# Altium footprint library U_6_DRY.PcbLib: 1 footprints
Each footprint in its own frame and in the unit in brackets; x right, y up, seen from the top. Pads: shape width x height; smd on the part's side, far side on the other; paste and mask are expansions set on the pad; w line width, h text height; cw(c..) or ccw(c..) is an arc to the next point about the centre after c.
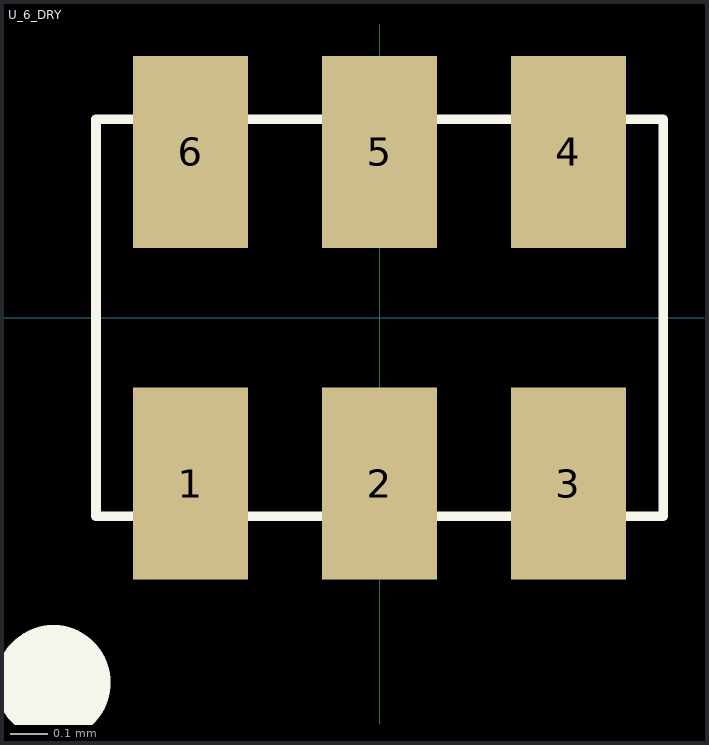
[diagram p0: the footprint, top view; thin cyan lines are the x and y axes]

## U_6_DRY [mil]
pads (6):
  rect 12x20 smd mask+2: 1(-19.68,-17.28) 2(0,-17.28) 3(19.68,-17.28) 4(19.68,17.28) 5(0,17.28) 6(-19.68,17.28)
Top Overlay:
  circle w10: c-34,-38 r1
  lines w1: -29.53,-20.67 -29.53,20.67 29.53,20.67 29.53,-20.67 -29.53,-20.67